# Altium schematic symbol library sch jasiel.SchLib: 32 symbols (part 1 of 2)
Pins are listed as number, name and electrical type; pins without a type are passive.

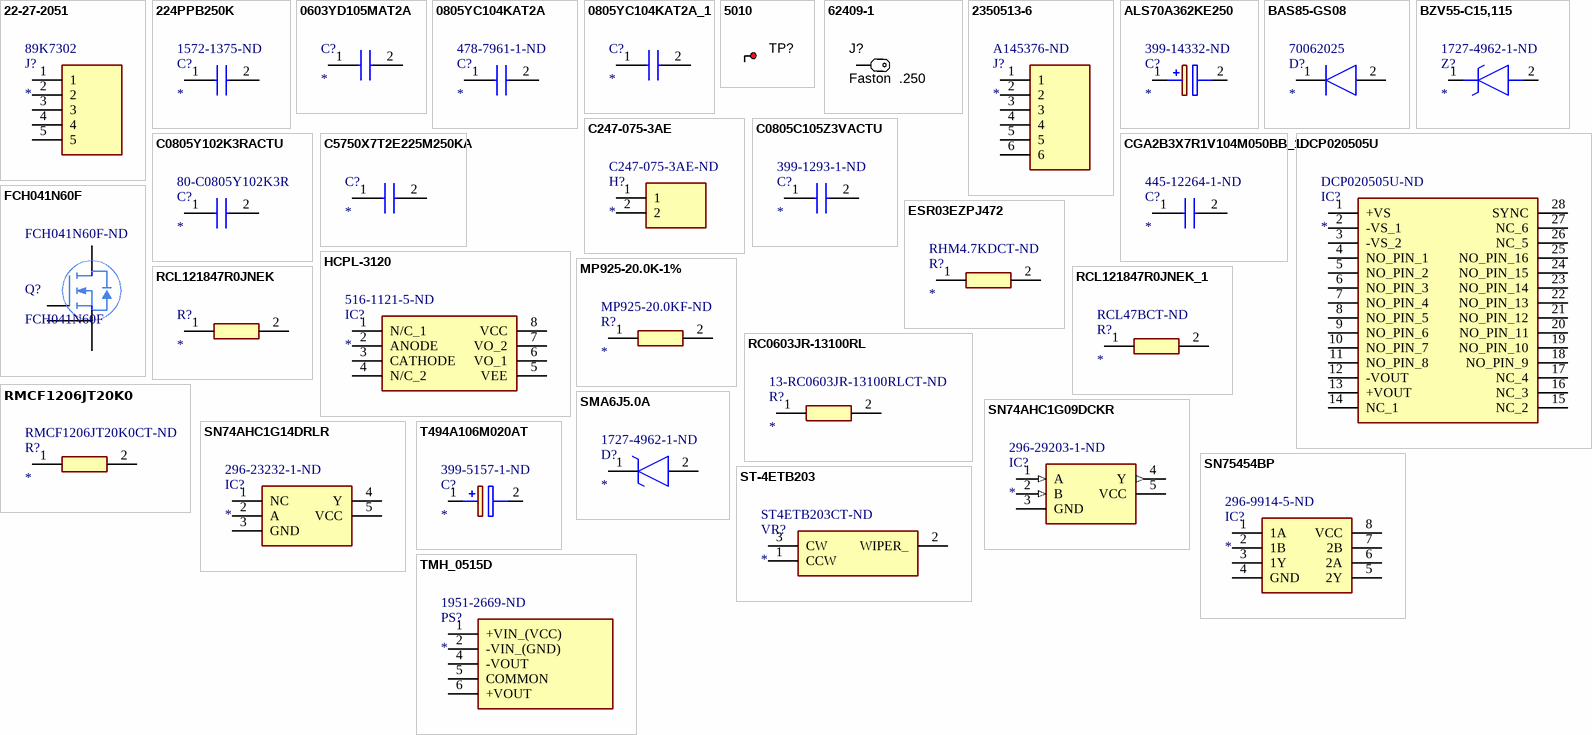
[diagram p0: symbols 22-27-2051 to TMH_0515D]

## 22-27-2051
designator J?  Supplier Part Number 1: 89K7302
Header Connector,PCB Mount,RECEPT,5 Contacts,PIN,0.1 Pitch,PC TAIL Terminal,POLARIZED LCK; Manufacturer_Name: Molex; Number of Contacts: 5; Contact Resistance: 10mR; Gender: Male; Pitch: 2.54mm; Contact Post Length: 0.14inch; Height: 12.05mm; Manufacturer_Part_Number: 22-27-2051; Supplier 1: Newark; Manufacturer: Molex; Manufacturer Part Number: 22-27-2051; RoHS: Yes; Category: Headers and Wire Housings; Stock 1: 21828; Pricing 1: 1=0.57800, 10=0.47700, 25=0.45700, 50=0.43700, 100=0.41700, 250=0.39000, 500=0.36100, 1000=0.30000 (USD); Mount: Through Hole; Contact Material: Brass; Contact Plating: Tin,Copper; Color: Natural; Housing Color: White; Housing Material: Nylon; Contact Shape: Square; Contact Finish - Mating: TIN; Insulation Material: Nylon; Insulation Color: Natural; Min Operating Temperature: 0°C; Max Operating Temperature: 75°C; Termination: Solder; Number of Rows: 1; Orientation: Straight; Series: KK 6410; Fastening Type: Friction; Packaging: Bulk; Number of Positions: 5; Connector Type: Header; Contact Type: Male Pin; Length: 12.7mm; Contact Mating Length: 0.295inch; Depth: 5.8mm; Insulation Height: 0.461inch; RoHS Compliant: Yes; Flammability Rating: UL94 V-0; ComponentLink1URL: https://datasheet.ciiva.com/716/022272051-sd-716503.pdf?src-supplier=Digi-Key; ComponentLink1Description: https://datasheet.ciiva.com/716/022272051-sd-716503.pdf?src-supplier=Digi-Key; ComponentLink2URL: https://datasheet.ciiva.com/3934/57790022272051-pcb-headers-3934985.pdf?src-supplier=Arrow+Electronics; ComponentLink2Description: https://datasheet.ciiva.com/3934/57790022272051-pcb-headers-3934985.pdf?src-supplier=Arrow+Electronics; ComponentLink3URL: https://datasheet.ciiva.com/30082/31850022272051-pcb-headers-30082446.pdf?src-supplier=Onlinecomponents.com; ComponentLink3Description: https://datasheet.ciiva.com/30082/31850022272051-pcb-headers-30082446.pdf?src-supplier=Onlinecomponents.com; ComponentLink4URL: https://datasheet.ciiva.com/11746/0900766b8046269a-11746902.pdf?src-supplier=RSComponents; ComponentLink4Description: https://datasheet.ciiva.com/11746/0900766b8046269a-11746902.pdf?src-supplier=RSComponents; ComponentLink5URL: https://datasheet.ciiva.com/15217/getdatasheetpartid-240225-15217686.pdf?src-supplier=Verical; ComponentLink5Description: https://datasheet.ciiva.com/15217/getdatasheetpartid-240225-15217686.pdf?src-supplier=Verical; ComponentLink6URL: https://datasheet.ciiva.com/20207/22-0838e-20207117.pdf?src-supplier=Rapid+Electronics; ComponentLink6Description: https://datasheet.ciiva.com/20207/22-0838e-20207117.pdf?src-supplier=Rapid+Electronics
footprint HDRV5W64P0X254_1X5_1270X580X1205P
pins: 1, 2, 3, 4, 5

## 224PPB250K
designator C?  Supplier Part Number 1: 1572-1375-ND
CAP FILM 0.22UF 10% 250VDC RAD; Manufacturer_Name: ILLINOIS CAPACITOR; Manufacturer_Part_Number: 224PPB250K; Manufacturer: CDE Illinois Capacitor; Dielectric Material: PP; Capacitance: 220nF; Voltage Rating (DC): 250V; Voltage Rating (AC): 160V; Datasheet Link: https://componentsearchengine.com/Datasheets/1/224PPB250K.pdf; Height: 15mm; Mouser Part Number: 598-224PPB250K; Mouser Price/Stock: https://www.mouser.com/Search/Refine.aspx?Keyword=598-224PPB250K; Supplier 1: Digi-Key; Manufacturer Part Number: 224PPB250K; RoHS: Yes; Category: Film Capacitors; Stock 1: 173; Pricing 1: 1=1.84000, 10=1.44900, 50=1.25580, 100=1.08680, 500=0.82110, 1000=0.72450, 2500=0.67620, 5000=0.65205 (USD); Mount: Through Hole,PCB; Case/Package: Radial; Min Operating Temperature: -55°C; Max Operating Temperature: 105°C; Tolerance: 10%; Voltage Rating: 250V; Packaging: Bulk; Termination: PC Pins; Series: PPB; Length: 1.043inch; Width: 0.236inch; Height - Seated (Max): 0.591inch; Lead Pitch: 0.886inch; Lead Free: Lead Free; ComponentLink1URL: https://datasheet.ciiva.com/23627/1658054-23627330.pdf?src-supplier=Newark; ComponentLink1Description: https://datasheet.ciiva.com/23627/1658054-23627330.pdf?src-supplier=Newark; ComponentLink2URL: https://datasheet.ciiva.com/16310/ppb-16310486.pdf?src-supplier=Future+Electronics; ComponentLink2Description: https://datasheet.ciiva.com/16310/ppb-16310486.pdf?src-supplier=Future+Electronics
footprint 224PPB250K
pins: 1, 2

## 0603YD105MAT2A
designator C?
Capacitor; Manufacturer_Name: AVX; Manufacturer_Part_Number: 0603YD105MAT2A; Datasheet Link: https://componentsearchengine.com/Datasheets/1/06031A100FAT2A.pdf; Height: 0.9mm
footprint CAPC1608X90N
pins: 1, 2

## 0805YC104KAT2A
designator C?  Supplier Part Number 1: 478-7961-1-ND
Multilayer Ceramic Capacitors MLCC - SMD/SMT 16V .1uF X7R 0805 10%; Manufacturer_Name: AVX; Manufacturer_Part_Number: 0805YC104KAT2A; Manufacturer: Kyocera AVX; Capacitance: 100nF; Dissipation Factor: 12.5%; Insulation Resistance: 100GR; Datasheet Link: https://spicat.avx.com/product/mlcc/chartview/0805YC104KAT2A/DataSheet/X7R; Height: 0.94mm; Mouser Part Number: 581-0805YC104K; Mouser Price/Stock: https://www.mouser.co.uk/ProductDetail/AVX/0805YC104KAT2A?qs=0j3vzYx9OgS3bRufCc82qg%3D%3D; Arrow Part Number: 0805YC104KAT2A; Arrow Price/Stock: https://www.arrow.com/en/products/0805yc104kat2a/avx; Supplier 1: Digi-Key; Manufacturer Part Number: 0805YC104KAT2A; RoHS: Yes; Category: Ceramic Capacitors; Stock 1: 61419; Pricing 1: 1=0.30000, 10=0.20700, 50=0.12420, 100=0.10490, 500=0.07176, 1000=0.06348 (USD); Mount: Surface Mount; Case/Package: 0805; Number of Pins: 2; Case Code (Metric): 2012; Case Code (Imperial): 0805; Min Operating Temperature: -55°C; Max Operating Temperature: 125°C; Tolerance: 10%; Dielectric: X7R; Packaging: Tape and Reel; Voltage Rating: 16V; Package Quantity: 1; Termination: SMD/SMT; Voltage Rating (DC): 16V; Series: -; Construction: Flat; Length: 2.01mm; Width: 0.049inch; Depth: 1.25mm; Thickness: 0.037inch; Radiation Hardening: No; REACH SVHC: No SVHC; Lead Free: Lead Free; RoHS Compliant: Yes; ComponentLink1URL: https://datasheet.ciiva.com/206/cx7r-206011.pdf?src-supplier=Digi-Key; ComponentLink1Description: https://datasheet.ciiva.com/206/cx7r-206011.pdf?src-supplier=Digi-Key; ComponentLink2URL: https://datasheet.ciiva.com/5418/cx7r-5418479.pdf?src-supplier=Mouser; ComponentLink2Description: https://datasheet.ciiva.com/5418/cx7r-5418479.pdf?src-supplier=Mouser; ComponentLink3URL: https://datasheet.ciiva.com/2988/cx7r-2988050.pdf?src-supplier=Avnet; ComponentLink3Description: https://datasheet.ciiva.com/2988/cx7r-2988050.pdf?src-supplier=Avnet; ComponentLink4URL: https://datasheet.ciiva.com/14906/cx7r-14906278.pdf?src-supplier=Digi-Key; ComponentLink4Description: https://datasheet.ciiva.com/14906/cx7r-14906278.pdf?src-supplier=Digi-Key; ComponentLink5URL: https://datasheet.ciiva.com/15212/getdatasheetpartid-150472-15212621.pdf?src-supplier=Verical; ComponentLink5Description: https://datasheet.ciiva.com/15212/getdatasheetpartid-150472-15212621.pdf?src-supplier=Verical; ComponentLink6URL: https://datasheet.ciiva.com/28613/1679506-28613143.pdf?src-supplier=Element14; ComponentLink6Description: https://datasheet.ciiva.com/28613/1679506-28613143.pdf?src-supplier=Element14; ComponentLink7URL: https://datasheet.ciiva.com/16623/cx7r-16623414.pdf?src-supplier=Avnet+Europe; ComponentLink7Description: https://datasheet.ciiva.com/16623/cx7r-16623414.pdf?src-supplier=Avnet+Europe
footprint CAPC2012X94N
pins: 1, 2

## 0805YC104KAT2A_1
designator C?
Capacitor; Manufacturer_Name: AVX; Manufacturer_Part_Number: 0805YC104KAT2A; Datasheet Link: https://spicat.avx.com/product/mlcc/chartview/0805YC104KAT2A/DataSheet/X7R; Height: 0.94mm; Mouser Part Number: 581-0805YC104K; Mouser Price/Stock: https://www.mouser.co.uk/ProductDetail/AVX/0805YC104KAT2A?qs=0j3vzYx9OgS3bRufCc82qg%3D%3D; Arrow Part Number: 0805YC104KAT2A; Arrow Price/Stock: https://www.arrow.com/en/products/0805yc104kat2a/avx
footprint CAPC2012X94N
pins: 1, 2

## 5010
designator TP?  (value not drawn)
Test Point, Multipurpose, Red, TH; Manufacturer: Keystone; CompType: Test Point Loop; ContactFinish: Silver; SymbolVersion: 2008-04-04; PartNumber: 5010; PackageReference: Red Multipurpose Testpoint; RoHS: Y; MountType: TH; ComponentLink1Description: Datasheet URL; ComponentLink1URL: http://www.keyelco.com/userAssets/file/M60-2p60.pdf; Color: Red; Publisher: Texas Instruments; LatestRevisionDate: 2016-02-11; Supplier 1: Digi-Key; Supplier Part Number 1: 36-5010-ND; Supplier 2: Mouser; Supplier Part Number 2: 534-5010
footprint Keystone5010
pins: 1

## 62409-1
designator J?, comment Faston  .250
Quick Disconnect Terminal M 15.8mm 7.5mm Tin Over Copper Automotive Bag; Manufacturer: AMP - TE CONNECTIVITY; Manufacturer Part Number: 62409-1; RoHS: No; Stock 1: 8729; Pricing 1: 1=0,19000, 10=0,17800, 25=0,15200, 50=0,13320, 100=0,12360, 250=0,10936, 750=0,09035, 1500=0,08083, 8000=0,06895 (USD); ComponentLink1URL: http://www.farnell.com/datasheets/1650963.pdf?src-supplier=Farnell; ComponentLink1Description: http://www.farnell.com/datasheets/1650963.pdf?src-supplier=Farnell; ComponentLink2URL: http://www.farnell.com/datasheets/1650963.pdf?src-supplier=Element14; ComponentLink2Description: http://www.farnell.com/datasheets/1650963.pdf?src-supplier=Element14; ComponentLink3URL: http://www.farnell.com/datasheets/1650963.pdf?src-supplier=Newark; ComponentLink3Description: http://www.farnell.com/datasheets/1650963.pdf?src-supplier=Newark; ComponentLink4URL: https://www.te.com/commerce/DocumentDelivery/DDEController?Action=srchrtrv&DocNm=62409&DocType=Customer+Drawing&DocLang=English&src-supplier=Digi-Key; ComponentLink4Description: https://www.te.com/commerce/DocumentDelivery/DDEController?Action=srchrtrv&DocNm=62409&DocType=Customer+Drawing&DocLang=English&src-supplier=Digi-Key; Supplier 1: Newark; Supplier Part Number 1: 26AC8417
footprint TE_62409-1
pins: 1 P1

## 2350513-6
designator J?  Supplier Part Number 1: A145376-ND
Connector; Manufacturer_Name: TE Connectivity; Manufacturer_Part_Number: 2350513-6; Datasheet Link: https://componentsearchengine.com/Datasheets/1/2350513-6.pdf; Height: 8.6mm; Supplier 1: Digi-Key; Manufacturer: TE Connectivity; Manufacturer Part Number: 2350513-6; RoHS: Yes; Stock 1: 2983; Pricing 1: 1=1.16000, 10=0.81200, 25=0.75720, 50=0.68740, 100=0.68430, 250=0.57788, 500=0.54748, 1000=0.48664, 5000=0.39540 (USD)
footprint 23505136
pins: 1, 2, 3, 4, 5, 6

## ALS70A362KE250
designator C?  Supplier Part Number 1: 399-14332-ND
Capacitor Polarised; Manufacturer_Name: Kemet; Manufacturer_Part_Number: ALS70A362KE250; Datasheet Link: https://www.mouser.co.cr/ProductDetail/KEMET/ALS70A362KE250?qs=%2Fha2pyFaduj3AQ8COxkE8lI%252BUillJnwqd3tsmY5wFt8h31rq7v%2FTZw%3D%3D; Height: 82mm; Supplier 1: Digi-Key; Manufacturer: KEMET; Manufacturer Part Number: ALS70A362KE250; RoHS: Yes; Stock 1: 77; Pricing 1: 1=23.64000, 10=22.39500, 50=19.28460, 100=18.04040, 500=16.17416, 1000=15.75944 (USD)
footprint CAPPRD2220W900D5400H8200
pins: 1 + (power), 2 - (power)

## BAS85-GS08
designator D?  Supplier Part Number 1: 70062025
VISHAY - BAS85-GS08 - Small Signal Schottky Diode, Single, 30 V, 200 mA, 800 mV, 600 mA, 125 °C; Manufacturer: Vishay Semiconductors; Recovery Time: 5ns; Max Surge Current: 600mA; Forward Voltage: 800mV; Forward Current: 200mA; Max Reverse Current: 2uA; Max Repetitive Reverse Voltage (Vrrm): 30V; Power Dissipation: 200mW; Current Rating: 200A; Datasheet Link: https://www.vishay.com/docs/85510/bas85.pdf; Height: 1.6mm; Manufacturer_Name: Vishay; Manufacturer_Part_Number: BAS85-GS08; Supplier 1: Allied Electronics; Manufacturer Part Number: BAS85-GS08; RoHS: Yes; Category: Rectifier Diodes; Stock 1: 12500; Pricing 1: 1=0.06300, 12500=0.06000, 625000=0.05900 (USD); Mount: Surface Mount; Number of Pins: 2; Contact Plating: Tin,Silver; Min Operating Temperature: -55°C; Max Operating Temperature: 125°C; Package Quantity: 1; Packaging: Tape and Reel; Average Rectified Current: 200mA; Reverse Recovery Time: 5ns; Max Reverse Leakage Current: 2uA; Peak Non-Repetitive Surge Current: 600mA; Max Forward Surge Current (Ifsm): 600mA; Element Configuration: Single; Current: 200mA; Voltage: 30V; Max Reverse Voltage (DC): 30V; Diameter: 1.6mm; Length: 0.145inch; Width: 1.6mm; Radiation Hardening: No; REACH SVHC: Unknown; Lead Free: Lead Free; RoHS Compliant: Yes; ComponentLink1URL: https://datasheet.ciiva.com/1202/1354484-1202985.pdf?src-supplier=Farnell; ComponentLink1Description: https://datasheet.ciiva.com/1202/1354484-1202985.pdf?src-supplier=Farnell; ComponentLink2URL: https://datasheet.ciiva.com/4715/bas85-88986-4715157.pdf?src-supplier=Mouser; ComponentLink2Description: https://datasheet.ciiva.com/4715/bas85-88986-4715157.pdf?src-supplier=Mouser; ComponentLink3URL: https://datasheet.ciiva.com/17069/0900766b80de2cb8-17069417.pdf?src-supplier=Allied+Electronics; ComponentLink3Description: https://datasheet.ciiva.com/17069/0900766b80de2cb8-17069417.pdf?src-supplier=Allied+Electronics; ComponentLink4URL: https://datasheet.ciiva.com/1240/1749352-1240576.pdf?src-supplier=Newark; ComponentLink4Description: https://datasheet.ciiva.com/1240/1749352-1240576.pdf?src-supplier=Newark; ComponentLink5URL: https://datasheet.ciiva.com/13950/bas85-13950054.pdf?src-supplier=Digi-Key; ComponentLink5Description: https://datasheet.ciiva.com/13950/bas85-13950054.pdf?src-supplier=Digi-Key; ComponentLink6URL: https://datasheet.ciiva.com/13950/bas85-13950058.pdf?src-supplier=Digi-Key; ComponentLink6Description: https://datasheet.ciiva.com/13950/bas85-13950058.pdf?src-supplier=Digi-Key; ComponentLink7URL: https://datasheet.ciiva.com/8281/bas85-8281903.pdf?src-supplier=Avnet; ComponentLink7Description: https://datasheet.ciiva.com/8281/bas85-8281903.pdf?src-supplier=Avnet; ComponentLink8URL: https://datasheet.ciiva.com/16298/bas85-16298175.pdf?src-supplier=Future+Electronics; ComponentLink8Description: https://datasheet.ciiva.com/16298/bas85-16298175.pdf?src-supplier=Future+Electronics; ComponentLink9URL: https://datasheet.ciiva.com/16941/70061833-16941564.pdf?src-supplier=Allied+Electronics; ComponentLink9Description: https://datasheet.ciiva.com/16941/70061833-16941564.pdf?src-supplier=Allied+Electronics; ComponentLink10URL: https://datasheet.ciiva.com/25936/bas85-25936302.pdf?src-supplier=Avnet+Europe; ComponentLink10Description: https://datasheet.ciiva.com/25936/bas85-25936302.pdf?src-supplier=Avnet+Europe
footprint BAQ33GS08
pins: 1 K, 2 A

## BZV55-C15,115
designator Z?  Supplier Part Number 1: 1727-4962-1-ND
NEXPERIA - BZV55-C15,115 - ZENER-DIODE, 15V, 0.5W, SOD-80C-2; Datasheet Link: https://componentsearchengine.com//BZV55-C15,115.pdf; Mouser2 Part Number: 771-BZV55-C15T/R; Mouser2 Price/Stock: https://www.mouser.com/Search/Refine.aspx?Keyword=771-BZV55-C15T%2FR; Manufacturer_Name: Nexperia; Manufacturer_Part_Number: BZV55-C15,115; Supplier 1: Digi-Key; Manufacturer: Nexperia; Manufacturer Part Number: BZV55-C15,115; RoHS: Yes; Category: Zener Diodes; Stock 1: 198; Pricing 1: 1=0.19000, 10=0.17500, 100=0.09520, 500=0.05856, 1000=0.03993 (USD); RoHS Compliant: Yes; ComponentLink1URL: http://www.farnell.com/datasheets/1498690.pdf?src-supplier=Farnell; ComponentLink1Description: http://www.farnell.com/datasheets/1498690.pdf?src-supplier=Farnell; ComponentLink2URL: https://assets.nexperia.com/documents/data-sheet/BZV55_SER.pdf?src-supplier=Digi-Key; ComponentLink2Description: https://assets.nexperia.com/documents/data-sheet/BZV55_SER.pdf?src-supplier=Digi-Key
footprint BZV55C11115
pins: 1 K, 2 A

## C247-075-3AE
designator H?  Supplier Part Number 1: C247-075-3AE-ND
Heatsink,  TO-247,  75 x 20.47 x 38mm,  Spring Clip Mount; Manufacturer_Name: Ohmite; Manufacturer_Part_Number: C247-075-3AE; Shape: Fins,Rectangular; Finish: Anodized; Thermal Resistance @ Forced Air Flow (100 LFM): 2°C/W; Datasheet Link: https://www.ohmite.com/assets/docs/sink_c.pdf; Height: 38mm; Supplier 1: Digi-Key; Manufacturer: Ohmite; Manufacturer Part Number: C247-075-3AE; RoHS: Yes; Category: Heat Sinks; Stock 1: 277; Pricing 1: 1=10.28000, 10=9.99900, 25=9.44360, 50=8.88800, 100=8.33250, 250=7.77700, 500=7.22150, 1000=7.08262 (USD); Mount: PC Pin,Board,Clip; Case/Package: TO-247; Weight: 1.6oz; Package Cooled: TO-247; Material: Aluminium; Color: Black; Packaging: Bulk; Package Quantity: 5; Type: Passive; Termination: Radial; Natural Thermal Resistance: 2°C/W; Series: C; Length: 75mm; Width: 1.5inch; Height Off Base: 0.71inch; REACH SVHC: Unknown; RoHS Compliant: Yes; ComponentLink1URL: https://datasheet.ciiva.com/1347/1491991-1347537.pdf?src-supplier=Element14; ComponentLink1Description: https://datasheet.ciiva.com/1347/1491991-1347537.pdf?src-supplier=Element14; ComponentLink2URL: https://datasheet.ciiva.com/30237/c-sink-30237933.pdf?src-supplier=Onlinecomponents.com; ComponentLink2Description: https://datasheet.ciiva.com/30237/c-sink-30237933.pdf?src-supplier=Onlinecomponents.com; ComponentLink3URL: https://datasheet.ciiva.com/16151/c-sink-16151064.pdf?src-supplier=Onlinecomponents.com; ComponentLink3Description: https://datasheet.ciiva.com/16151/c-sink-16151064.pdf?src-supplier=Onlinecomponents.com; ComponentLink4URL: https://datasheet.ciiva.com/14543/70024778-14543773.pdf?src-supplier=Allied+Electronics; ComponentLink4Description: https://datasheet.ciiva.com/14543/70024778-14543773.pdf?src-supplier=Allied+Electronics
footprint C2470753AE
pins: 1, 2

## C0805C105Z3VACTU
designator C?  Supplier Part Number 1: 399-1293-1-ND
KEMET - C0805C105Z3VACTU - Condensatore Ceramico Multistrato SMD, 1 µF, 25 V, 0805 [2012 Metrico], +80%, -20%, Y5V; Capacitance: 1uF; Tolerance: 80%; Voltage Rating: 25V; Dissipation Factor: 7%; Height: 1.4mm; Manufacturer_Name: Kemet; Manufacturer_Part_Number: C0805C105Z3VACTU; Supplier 1: Digi-Key; Manufacturer: KEMET; Manufacturer Part Number: C0805C105Z3VACTU; RoHS: Yes; Category: Ceramic Capacitors; Stock 1: 52228; Pricing 1: 1=0.19000, 10=0.13300, 50=0.07540, 100=0.06250, 500=0.04384, 1000=0.03630 (USD); Mount: Surface Mount,PCB; Case/Package: 0805; Case Code (Metric): 2012; Case Code (Imperial): 0805; Dielectric Material: Ceramic; Contact Plating: Tin,Matte; Min Operating Temperature: -30°C; Max Operating Temperature: 85°C; Packaging: Tape and Reel; Package Quantity: 1; Voltage Rating (DC): 25V; Dielectric: Y5V; Termination: SMD/SMT; Voltage: 25V; Series: C; Construction: Flat; Length: 2mm; Width: 0.049inch; Thickness: 0.055inch; Lead Pitch: 0.75mm; Depth: 1.25mm; Radiation Hardening: No; REACH SVHC: No SVHC; Lead Free: Lead Free; RoHS Compliant: Yes; ComponentLink1URL: https://datasheet.ciiva.com/26923/getdatasheetpartid-760604-26923968.pdf?src-supplier=Verical; ComponentLink1Description: https://datasheet.ciiva.com/26923/getdatasheetpartid-760604-26923968.pdf?src-supplier=Verical; ComponentLink2URL: https://datasheet.ciiva.com/7842/1470417-7842551.pdf?src-supplier=Element14; ComponentLink2Description: https://datasheet.ciiva.com/7842/1470417-7842551.pdf?src-supplier=Element14; ComponentLink3URL: https://datasheet.ciiva.com/7410/1828802-7410679.pdf?src-supplier=Newark; ComponentLink3Description: https://datasheet.ciiva.com/7410/1828802-7410679.pdf?src-supplier=Newark; ComponentLink4URL: https://datasheet.ciiva.com/26847/getdatasheetpartid-306316-26847813.pdf?src-supplier=Verical; ComponentLink4Description: https://datasheet.ciiva.com/26847/getdatasheetpartid-306316-26847813.pdf?src-supplier=Verical; ComponentLink5URL: https://datasheet.ciiva.com/14597/70095383-14597676.pdf?src-supplier=Allied+Electronics; ComponentLink5Description: https://datasheet.ciiva.com/14597/70095383-14597676.pdf?src-supplier=Allied+Electronics
footprint CAPC2012X140N
pins: 1, 2

## C0805Y102K3RACTU
designator C?  Supplier Part Number 1: 80-C0805Y102K3R
Multilayer Ceramic Capacitors MLCC - SMD/SMT 25volts 1000pF 10% X7R; Manufacturer_Name: Kemet; Manufacturer_Part_Number: C0805Y102K3RACTU; Capacitance: 1nF; Voltage Rating (DC): 25V; Datasheet Link: https://www.kemet.com/specsheet/C0805Y102K3RACTU; Height: 0.98mm; Mouser Part Number: 80-C0805Y102K3R; Mouser Price/Stock: https://www.mouser.com/Search/Refine.aspx?Keyword=80-C0805Y102K3R; Supplier 1: Mouser; Manufacturer: KEMET; Manufacturer Part Number: C0805Y102K3RACTU; RoHS: Yes; Category: Capacitors; Stock 1: 8015; Pricing 1: 1=0.43000, 10=0.30100, 50=0.30100, 100=0.18100, 1000=0.11400, 10000=0.10200 (USD); Case/Package: 0805; Case Code (Imperial): 0805; Case Code (Metric): 2012; Weight: 0.000194oz; Dielectric Material: Ceramic; Min Operating Temperature: -55°C; Max Operating Temperature: 125°C; Packaging: Tape and Reel; Tolerance: 10%; Dielectric: X7R; Termination: SMD/SMT; Series: C0805Y; RoHS Compliant: Yes; ComponentLink1URL: http://www.mouser.com/ds/2/212/KEM_C1015_X7R_FF-CAP_SMD-1101148.pdf?src-supplier=Mouser; ComponentLink1Description: http://www.mouser.com/ds/2/212/KEM_C1015_X7R_FF-CAP_SMD-1101148.pdf?src-supplier=Mouser
footprint CAPC2012X98N
pins: 1, 2

## C5750X7T2E225M250KA
designator C?
Capacitor; Manufacturer_Name: TDK; Manufacturer_Part_Number: C5750X7T2E225M250KA; Datasheet Link: https://product.tdk.com/en/search/capacitor/ceramic/mlcc/info?part_no=C5750X7T2E225M250KA; Height: 3.1mm
footprint CAPC5750X310N
pins: 1, 2

## CGA2B3X7R1V104M050BB_1
designator C?  Supplier Part Number 1: 445-12264-1-ND
Cap Ceramic 0.1uF 35V X7R 20% Pad SMD 0402 125C Automotive T/R; Manufacturer_Name: TDK; Manufacturer_Part_Number: CGA2B3X7R1V104M050BB; Capacitance: 100nF; Height: 0.55mm; Supplier 1: Digi-Key; Manufacturer: TDK; Manufacturer Part Number: CGA2B3X7R1V104M050BB; RoHS: Yes; Category: Ceramic Capacitors; Stock 1: 93877; Pricing 1: 1=0.14000, 10=0.10200, 50=0.05780, 100=0.04780, 500=0.03356, 1000=0.02778, 2500=0.02585, 5000=0.02365 (USD); Mount: Surface Mount; Case/Package: 0402; Case Code (Metric): 1005; Case Code (Imperial): 0402; Weight: 2.3E-05oz; Min Operating Temperature: -55°C; Max Operating Temperature: 125°C; Tolerance: 20%; Voltage Rating: 35V; Package Quantity: 10000; Packaging: Tape and Reel; Dielectric: X7R; Voltage Rating (DC): 35V; Series: CGA; Length: 0.039inch; Width: 0.02inch; Thickness: 0.022inch; Ratings: AEC-Q200; RoHS Compliant: Yes; ComponentLink1URL: http://www.mouser.com/ds/2/400/lcc_automotive_general_en-843974.pdf?src-supplier=Mouser; ComponentLink1Description: http://www.mouser.com/ds/2/400/lcc_automotive_general_en-843974.pdf?src-supplier=Mouser; ComponentLink2URL: https://product.tdk.com/info/en/catalog/datasheets/mlcc_automotive_general_en.pdf?src-supplier=Digi-Key; ComponentLink2Description: https://product.tdk.com/info/en/catalog/datasheets/mlcc_automotive_general_en.pdf?src-supplier=Digi-Key; ComponentLink3URL: https://product.tdk.com/info/en/documents/chara_sheet/CGA2B3X7R1V104M050BB.pdf?src-supplier=Digi-Key; ComponentLink3Description: https://product.tdk.com/info/en/documents/chara_sheet/CGA2B3X7R1V104M050BB.pdf?src-supplier=Digi-Key; ComponentLink4URL: http://product.tdk.com/en/catalog/datasheets/mlcc_automotive_general_en.pdf?src-supplier=Avnet; ComponentLink4Description: http://product.tdk.com/en/catalog/datasheets/mlcc_automotive_general_en.pdf?src-supplier=Avnet
footprint CAPC1005X55N
pins: 1, 2

## DCP020505U
designator IC?  Supplier Part Number 1: DCP020505U-ND
TEXAS INSTRUMENTS         DCP020505U             ISOLATED DC/DC CONVERTER, SOP-28; Number of Outputs: 1; Output Power: 2W; Efficiency: 80%; Output Current: 400mA; Output Voltage: 5V; Max Input Voltage: 5.5V; Min Input Voltage: 4.5V; Switching Frequency: 400kHz; Isolation Voltage: 1kV; Max Power Dissipation: 90mW; Max Output Voltage: 5.25V; Min Output Voltage: 4.75V; Quiescent Current: 18mA; Output Type: Fixed; Datasheet Link: http://www.ti.com/lit/gpn/dcp020505; Height: 2.65mm; Mouser2 Part Number: 595-DCP020505U; Mouser2 Price/Stock: https://www.mouser.com/Search/Refine.aspx?Keyword=595-DCP020505U; Manufacturer_Name: Texas Instruments; Manufacturer_Part_Number: DCP020505U; Supplier 1: Digi-Key; Manufacturer: Texas Instruments; Manufacturer Part Number: DCP020505U; RoHS: Yes; Category: Board Mount Modules; Stock 1: 4970; Pricing 1: 1=11.23000 (USD); Case/Package: SOP; Number of Pins: 12; Min Operating Temperature: -40°C; Max Operating Temperature: 85°C; Package Quantity: 28; Packaging: Rail/Tube; Max Output Current: 400mA; Voltage - Output 1: 5V; Current - Output 1: 400mA; Max Output Power: 2W; Features: OTP; Series: DCP02; Nominal Output Voltage: 5V; Length: 0.71inch; Width: 0.3inch; Radiation Hardening: No; Lead Free: Lead Free; RoHS Compliant: Yes; REACH SVHC: No SVHC; ComponentLink1URL: https://datasheet.ciiva.com/19456/900308-19456024.pdf?src-supplier=Jameco; ComponentLink1Description: https://datasheet.ciiva.com/19456/900308-19456024.pdf?src-supplier=Jameco; ComponentLink2URL: https://datasheet.ciiva.com/15113/getdatasheetpartid-254307-15113476.pdf?src-supplier=Verical; ComponentLink2Description: https://datasheet.ciiva.com/15113/getdatasheetpartid-254307-15113476.pdf?src-supplier=Verical; ComponentLink3URL: https://datasheet.ciiva.com/26901/dcp020505u-26901416.pdf?src-supplier=IIIC; ComponentLink3Description: https://datasheet.ciiva.com/26901/dcp020505u-26901416.pdf?src-supplier=IIIC; ComponentLink4URL: https://datasheet.ciiva.com/2035/dcp020503-2035804.pdf?src-supplier=Digi-Key; ComponentLink4Description: https://datasheet.ciiva.com/2035/dcp020503-2035804.pdf?src-supplier=Digi-Key; ComponentLink5URL: https://datasheet.ciiva.com/1162/1833994-1162398.pdf?src-supplier=Element14; ComponentLink5Description: https://datasheet.ciiva.com/1162/1833994-1162398.pdf?src-supplier=Element14; ComponentLink6URL: https://datasheet.ciiva.com/48695/001206978-da-01-en-ic-reg-isolated-5v-dcp020505u-sop-12-tid-48695307.pdf?src-supplier=Conrad; ComponentLink6Description: https://datasheet.ciiva.com/48695/001206978-da-01-en-ic-reg-isolated-5v-dcp020505u-sop-12-tid-48695307.pdf?src-supplier=Conrad
footprint SOIC127P1033X265-28N
pins: 1 +VS, 2 -VS_1, 3 -VS_2, 4 NO_PIN_1, 5 NO_PIN_2, 6 NO_PIN_3, 7 NO_PIN_4, 8 NO_PIN_5, 9 NO_PIN_6, 10 NO_PIN_7, 11 NO_PIN_8, 12 -VOUT, 13 +VOUT, 14 NC_1, 15 NC_2, 16 NC_3, 17 NC_4, 18 NO_PIN_9, 19 NO_PIN_10, 20 NO_PIN_11, 21 NO_PIN_12, 22 NO_PIN_13, 23 NO_PIN_14, 24 NO_PIN_15, 25 NO_PIN_16, 26 NC_5, 27 NC_6, 28 SYNC

## ESR03EZPJ472
designator R?  Supplier Part Number 1: RHM4.7KDCT-ND
ESR03EZPJ472; Manufacturer_Name: ROHM Semiconductor; Manufacturer: Rohm; Resistance: 4.7kR; Tolerance: 5%; Temperature Coefficient: 200ppm/°C; Max Power Dissipation: 250mW; Datasheet Link: http://www.rohm.com/web/global/datasheet/ESR01MZPF/esr-e; Height: 0.55mm; Manufacturer_Part_Number: ESR03EZPJ472; Supplier 1: Digi-Key; Manufacturer Part Number: ESR03EZPJ472; RoHS: Yes; Category: Chip SMD Resistors; Stock 1: 85174; Pricing 1: 1=0.10000, 10=0.08200, 100=0.03160, 1000=0.01392, 2500=0.01202 (USD); Case/Package: 0603; Case Code (Imperial): 0603; Min Operating Temperature: -55°C; Max Operating Temperature: 155°C; Package Quantity: 5000; Packaging: Tape and Reel; Resistor Type: Thick Film; Number of Terminations: 2; Features: Automotive AEC-Q200; Series: ESR; Length: 0.063inch; Width: 0.031inch; RoHS Compliant: Yes; ComponentLink1URL: https://datasheet.ciiva.com/2468/esr-2468934.pdf?src-supplier=Digi-Key; ComponentLink1Description: https://datasheet.ciiva.com/2468/esr-2468934.pdf?src-supplier=Digi-Key
footprint RESC1608X55N - duplicate
pins: 1, 2

## FCH041N60F
designator Q?  Supplier Part Number 1: FCH041N60F-ND
MOSFET 600V N-Channel MOSFET, FRFET; Manufacturer: ON Semiconductor / Fairchild; Continuous Drain Current (ID): 76A; Rds On Max: 41mR; Input Capacitance: 14.365nF; Rise Time: 66ns; Max Power Dissipation: 595W; Fall Time: 53ns; Gate to Source Voltage (Vgs): 20V; Turn-Off Delay Time: 244ns; Turn-On Delay Time: 63ns; Element Configuration: Single; Drain to Source Resistance: 36mR; Number of Elements: 1; Manufacturer Part Number: FCH041N60F; RoHS: Yes; Category: MOSFETs; Stock 1: 1157; Pricing 1: 1=9.07000, 10=8.19600, 25=7.81480, 100=6.78560, 500=6.06480 (USD); Mount: Through Hole; Case/Package: TO-247-3; Number of Pins: 3; Weight: 6.39g; Contact Plating: Tin,Matte; Min Operating Temperature: -55°C; Max Operating Temperature: 150°C; Packaging: Rail/Tube; Drain to Source Voltage (Vdss): 600V; Package Quantity: 30; Drain to Source Breakdown Voltage: 600V; Power Dissipation: 595W; Polarity: N-CHANNEL; Series: SuperFETII®; Length: 15.87mm; Width: 4.82mm; Height: 20.82mm; Radiation Hardening: No; Lead Free: Lead Free; RoHS Compliant: Yes; ComponentLink1URL: https://datasheet.ciiva.com/15043/fch041n60f-15043778.pdf?src-supplier=Digi-Key; ComponentLink1Description: https://datasheet.ciiva.com/15043/fch041n60f-15043778.pdf?src-supplier=Digi-Key; ComponentLink2URL: https://datasheet.ciiva.com/13058/fch041n60f-226495-13058758.pdf?src-supplier=Mouser; ComponentLink2Description: https://datasheet.ciiva.com/13058/fch041n60f-226495-13058758.pdf?src-supplier=Mouser; ComponentLink3URL: https://datasheet.ciiva.com/28425/fch041n60f-28425574.pdf?src-supplier=Avnet+Europe; ComponentLink3Description: https://datasheet.ciiva.com/28425/fch041n60f-28425574.pdf?src-supplier=Avnet+Europe; Supplier 1: Digi-Key
footprint TO-247-4L_FCH041N60F
pins: 1 D, 2 Power Source, 3 S, 4 G

## HCPL-3120
designator IC?  Supplier Part Number 1: 516-1121-5-ND
Optocoupler Drive Push-Pull 1-CH 30V 1500V 8-Pin PDIP; Manufacturer_Name: Avago Technologies; Manufacturer: Broadcom Avago; Number of Channels: 1; Propagation Delay: 500ns; Rise Time: 100ns; Pulse Width Distortion (PWD): 300ns; Direction: Unidirectional; Max Power Dissipation: 295mW; Forward Current: 25mA; Forward Voltage: 1.5V; Reverse Breakdown Voltage: 5V; High Level Output Current: 2A; Fall Time: 0.1us; Isolation Voltage: 3.75kV; Max Output Current: 2.5A; Input Type: DC; Approvals: CSA,UR; Datasheet Link: https://docs.broadcom.com/docs/AV02-0161EN; Height: 4.7mm; Mouser2 Part Number: 630-HCPL-3120; Mouser2 Price/Stock: https://www.mouser.com/Search/Refine.aspx?Keyword=630-HCPL-3120; Manufacturer_Part_Number: HCPL-3120; Supplier 1: Digi-Key; Manufacturer Part Number: HCPL-3120; RoHS: No; Category: Optocouplers; Stock 1: 3108; Pricing 1: 1=4.42000, 10=3.12300, 100=2.55790, 500=2.15642, 1000=2.10450 (USD); Mount: Through Hole; Case/Package: PDIP; Number of Pins: 8; Min Operating Temperature: -40°C; Max Operating Temperature: 100°C; Packaging: Rail/Tube; Package Quantity: 50; Series: -; Low Level Output Current: 2A; Turn-On Delay Time: 500ns; Number of Elements: 1; Power Dissipation: 295mW; Output Type: PUSH-PULL; Radiation Hardening: No; RoHS Compliant: No; Lead Free: Contains Lead; ComponentLink1URL: https://datasheet.ciiva.com/19453/1550434-19453924.pdf?src-supplier=Jameco; ComponentLink1Description: https://datasheet.ciiva.com/19453/1550434-19453924.pdf?src-supplier=Jameco; ComponentLink2URL: https://datasheet.ciiva.com/15119/getdatasheetpartid-141584-15119757.pdf?src-supplier=Verical; ComponentLink2Description: https://datasheet.ciiva.com/15119/getdatasheetpartid-141584-15119757.pdf?src-supplier=Verical
footprint DIP762W65P254L965H470Q8N
pins: 1 N/C_1, 2 ANODE, 3 CATHODE, 4 N/C_2, 5 VEE, 6 VO_1, 7 VO_2, 8 VCC

## MP925-20.0K-1%
designator R?  Supplier Part Number 1: MP925-20.0KF-ND
RES 20K OHM 25W 1% TO220; Manufacturer_Name: Caddock; Manufacturer_Part_Number: MP925-20.0K-1%; Resistance: 20kR; Voltage Rating: 500V; Temperature Coefficient: 80ppm/°C; Lead Diameter: 0.64mm; Lead Length: 12.7mm; Datasheet Link: http://www.caddock.com/Online_catalog/Mrktg_Lit/MP9000_Series.pdf; Height: 3.44mm; Supplier 1: Digi-Key; Manufacturer: Caddock; Manufacturer Part Number: MP925-20.0K-1%; RoHS: Yes; Category: Through-Hole Resistors; Stock 1: 6167; Pricing 1: 1=5.50000, 10=4.97300, 100=3.70300, 1000=2.66616, 2500=2.62384 (USD); Case/Package: TO-220; Min Operating Temperature: -55°C; Max Operating Temperature: 150°C; Tolerance: 1%; Power Rating: 25W; Package Quantity: 50; Packaging: Rail/Tube; Voltage Rating (DC): 500V; Termination: Radial; Resistor Type: Thick Film; Number of Terminations: 2; Max Power Dissipation: 25W; Features: Moisture Resistant; Series: Kool-Pak®MP900; Resistance Tolerance: 1%; Length: 10.41mm; Width: 3.18mm; Lead Pitch: 5.08mm; Depth: 3.18mm; Thickness: 0.01inch; REACH SVHC: No SVHC; Lead Free: Lead Free; RoHS Compliant: Yes; ComponentLink1URL: https://datasheet.ciiva.com/11828/0900766b80020b2d-11828047.pdf?src-supplier=RSComponents; ComponentLink1Description: https://datasheet.ciiva.com/11828/0900766b80020b2d-11828047.pdf?src-supplier=RSComponents; ComponentLink2URL: https://datasheet.ciiva.com/2720/mp9000-series-2720196.pdf?src-supplier=Digi-Key; ComponentLink2Description: https://datasheet.ciiva.com/2720/mp9000-series-2720196.pdf?src-supplier=Digi-Key; ComponentLink3URL: https://datasheet.ciiva.com/16720/70089379-16720159.pdf?src-supplier=Allied+Electronics; ComponentLink3Description: https://datasheet.ciiva.com/16720/70089379-16720159.pdf?src-supplier=Allied+Electronics; ComponentLink4URL: https://datasheet.ciiva.com/7986/638160-7986021.pdf?src-supplier=Element14; ComponentLink4Description: https://datasheet.ciiva.com/7986/638160-7986021.pdf?src-supplier=Element14; ComponentLink5URL: https://datasheet.ciiva.com/23759/638160-23759646.pdf?src-supplier=Newark; ComponentLink5Description: https://datasheet.ciiva.com/23759/638160-23759646.pdf?src-supplier=Newark; ComponentLink6URL: https://datasheet.ciiva.com/48502/mp900-series-eng-tds-48502054.pdf?src-supplier=Distrelec; ComponentLink6Description: https://datasheet.ciiva.com/48502/mp900-series-eng-tds-48502054.pdf?src-supplier=Distrelec
footprint TO508P344X1041X2058-2P
pins: 1, 2

## RC0603JR-13100RL
designator R?  Supplier Part Number 1: 13-RC0603JR-13100RLCT-ND
YAGEO - RC0603JR-13100RL - RES, THICK FILM, 100R, 5%, 0.1W, 0603; Manufacturer_Name: YAGEO (PHYCOMP); Power Rating: 100mW; Voltage Rating: 50V; Temperature Coefficient: 100ppm/°C; Datasheet Link: http://www.yageo.com/documents/recent/PYu-RC0603_51_RoHS_L_v5.pdf; Height: 0.55mm; Manufacturer_Part_Number: RC0603JR-13100RL; Supplier 1: Digi-Key; Manufacturer: Yageo; Manufacturer Part Number: RC0603JR-13100RL; RoHS: Yes; Category: Chip SMD Resistors; Stock 1: 37865; Pricing 1: 1=0.10000, 10=0.02000, 100=0.00800, 1000=0.00360, 2500=0.00312, 5000=0.00258 (USD); Case/Package: 0603; Number of Pins: 2; Case Code (Imperial): 0603; Case Code (Metric): 1608; Min Operating Temperature: -55°C; Max Operating Temperature: 155°C; Resistance: 100R; Tolerance: 5%; Packaging: Tape and Reel; Resistor Type: Thick Film; Termination: SMD/SMT; Voltage Rating (DC): 50V; Series: RC; Construction: Rectangular; Resistance Tolerance: 5%; Length: 1.6mm; Width: 0.8mm; Depth: 0.8mm; REACH SVHC: No SVHC; Military Standard: Not; Lead Free: Lead Free; RoHS Compliant: Yes; ComponentLink1URL: https://datasheet.ciiva.com/12558/rc0603-272842-12558903.pdf?src-supplier=Mouser; ComponentLink1Description: https://datasheet.ciiva.com/12558/rc0603-272842-12558903.pdf?src-supplier=Mouser; ComponentLink2URL: https://datasheet.ciiva.com/7983/443971-7983750.pdf?src-supplier=Element14; ComponentLink2Description: https://datasheet.ciiva.com/7983/443971-7983750.pdf?src-supplier=Element14; ComponentLink3Description: New link; ComponentLink3URL: *
footprint RESC1608X55N
pins: 1, 2

## RCL121847R0JNEK
designator R?
Resistor; Manufacturer_Name: Vishay; Manufacturer_Part_Number: RCL121847R0JNEK; Datasheet Link: http://www.vishay.com/docs/20046/rcle3.pdf; Height: 0.6mm
footprint RESC3246X60N
pins: 1, 2

## RCL121847R0JNEK_1
designator R?  Supplier Part Number 1: RCL47BCT-ND
Res Thick Film 1218 47 Ohm 5% 1W ±200ppm/C Pad SMD Automotive T/R; Manufacturer_Name: Vishay; Manufacturer_Part_Number: RCL121847R0JNEK; Resistance: 47R; Voltage Rating: 200V; Temperature Coefficient: 200ppm/°C; Datasheet Link: http://www.vishay.com/docs/20046/rcle3.pdf; Height: 0.6mm; Supplier 1: Digi-Key; Manufacturer: Vishay; Manufacturer Part Number: RCL121847R0JNEK; RoHS: Yes; Category: Chip SMD Resistors; Stock 1: 6113; Pricing 1: 1=0.62000, 10=0.47600, 100=0.20010, 1000=0.11040 (USD); Case/Package: 1218; Case Code (Metric): 4532; Case Code (Imperial): 1812; Weight: 0.001041oz; Min Operating Temperature: -55°C; Max Operating Temperature: 155°C; Package Quantity: 4000; Power Rating: 1W; Tolerance: 5%; Packaging: Tape and Reel; Resistor Type: Thick Film; Number of Terminations: 2; Termination: SMD/SMT; Max Power Dissipation: 1W; Features: Automotive AEC-Q200; Series: RCL; Length: 0.126inch; Width: 0.181inch; Height - Seated (Max): 0.024inch; RoHS Compliant: Yes; ComponentLink1URL: https://datasheet.ciiva.com/2480/dcrcwe3-2480270.pdf?src-supplier=Digi-Key; ComponentLink1Description: https://datasheet.ciiva.com/2480/dcrcwe3-2480270.pdf?src-supplier=Digi-Key; ComponentLink2URL: https://datasheet.ciiva.com/2480/rcle3-2480271.pdf?src-supplier=Digi-Key; ComponentLink2Description: https://datasheet.ciiva.com/2480/rcle3-2480271.pdf?src-supplier=Digi-Key; ComponentLink3URL: https://datasheet.ciiva.com/2480/rcle3-2480272.pdf?src-supplier=Digi-Key; ComponentLink3Description: https://datasheet.ciiva.com/2480/rcle3-2480272.pdf?src-supplier=Digi-Key
footprint RESC3246X60N
pins: 1, 2

## RMCF1206JT20K0‎‎
designator R?  Supplier Part Number 1: RMCF1206JT20K0CT-ND
RES SMD 20K OHM 5% 1/4W 1206; Manufacturer_Name: KOA Speer; Manufacturer_Part_Number: RN73H2BTTD1001B10; Manufacturer: Stackpole Electronics; Manufacturer Part Number: RMCF1206JT20K0; Resistance: 20kR; Power Rating: 250mW; Temperature Coefficient: 200ppm/°C; Datasheet Link: https://www.mouser.de/datasheet/2/219/RN73H-1843478.pdf; Height: 0.7mm; Supplier 1: Digi-Key; RoHS: Yes; Category: Chip SMD Resistors; Stock 1: 60988; Pricing 1: 1=0.10000, 10=0.02800, 100=0.01150, 1000=0.00518, 2500=0.00450 (USD); Mount: Surface Mount; Case/Package: 1206; Case Code (Metric): 3216; Case Code (Imperial): 1206; Contact Plating: Tin,Matte; Size Code: 1206; Min Operating Temperature: -55°C; Max Operating Temperature: 155°C; Tolerance: 5%; Packaging: Tape and Reel; Resistor Type: Thick Film; Number of Terminations: 2; Max Power Dissipation: 250mW; Features: Automotive AEC-Q200; Series: RMCF; Length: 0.126inch; Width: 0.063inch; Radiation Hardening: No; Lead Free: Lead Free; RoHS Compliant: Yes; ComponentLink1URL: http://components.arrow.com/part/dataview/43746691S7171900N1174?src-supplier=Arrow+Electronics; ComponentLink1Description: http://components.arrow.com/part/dataview/43746691S7171900N1174?src-supplier=Arrow+Electronics; ComponentLink2URL: https://www.seielect.com/catalog/SEI-RMCF_RMCP.pdf?src-supplier=Avnet; ComponentLink2Description: https://www.seielect.com/catalog/SEI-RMCF_RMCP.pdf?src-supplier=Avnet; ComponentLink3URL: https://www.seielect.com/Catalog/SEI-RMCF_RMCP.pdf?src-supplier=Digi-Key; ComponentLink3Description: https://www.seielect.com/Catalog/SEI-RMCF_RMCP.pdf?src-supplier=Digi-Key; ComponentLink4URL: https://www.seielect.com/catalog/SEI-Packaging.pdf?src-supplier=Digi-Key; ComponentLink4Description: https://www.seielect.com/catalog/SEI-Packaging.pdf?src-supplier=Digi-Key; ComponentLink5URL: http://www.seielect.com/Catalog/SEI-RMC.pdf?src-supplier=Future+Electronics; ComponentLink5Description: http://www.seielect.com/Catalog/SEI-RMC.pdf?src-supplier=Future+Electronics
footprint RESC3216X70N
pins: 1, 2

## SMA6J5.0A
designator D?  Supplier Part Number 1: 1727-4962-1-ND
NEXPERIA - BZV55-C15,115 - ZENER-DIODE, 15V, 0.5W, SOD-80C-2; Manufacturer_Name: LITTELFUSE; Manufacturer_Part_Number: SMA6J5.0A; Datasheet Link: https://www.arrow.com/en/products/sma6j5.0a/littelfuse; Height: 2.29mm; Supplier 1: Digi-Key; Manufacturer: Nexperia; Manufacturer Part Number: BZV55-C15,115; RoHS: Yes; Category: Zener Diodes; Stock 1: 165; Pricing 1: 1=0.19000, 10=0.17500, 100=0.09520, 500=0.05856, 1000=0.03993 (USD); RoHS Compliant: Yes; ComponentLink1URL: http://www.farnell.com/datasheets/1498690.pdf?src-supplier=Farnell; ComponentLink1Description: http://www.farnell.com/datasheets/1498690.pdf?src-supplier=Farnell; ComponentLink2URL: https://assets.nexperia.com/documents/data-sheet/BZV55_SER.pdf?src-supplier=Digi-Key; ComponentLink2Description: https://assets.nexperia.com/documents/data-sheet/BZV55_SER.pdf?src-supplier=Digi-Key
footprint DIOM5026X229N
pins: 1 K, 2 A

## SN74AHC1G09DCKR
designator IC?  Supplier Part Number 1: 296-29203-1-ND
TEXAS INSTRUMENTS         SN74AHC1G09DCKR             AND Gate, ACH Family, 2 Input, 1 Gate, 25 mA, 2V to 5.5V, SC-70-5; Quiescent Current: 1uA; Output Current: 25mA; Number of Inputs: 2; Propagation Delay: 7.5ns; Number of Outputs: 1; Low Level Output Current: 8mA; Datasheet Link: http://www.ti.com/lit/gpn/sn74ahc1g09; Height: 1.1mm; Manufacturer_Name: Texas Instruments; Manufacturer_Part_Number: SN74AHC1G09DCKR; Supplier 1: Digi-Key; Manufacturer: Texas Instruments; Manufacturer Part Number: SN74AHC1G09DCKR; RoHS: Yes; Category: Logic Gates; Stock 1: 19244; Pricing 1: 1=0.40000, 10=0.29700, 25=0.25960, 100=0.16810, 250=0.13912, 500=0.11130, 1000=0.08533 (USD); Mount: Surface Mount; Case/Package: SC; Number of Pins: 5; Min Operating Temperature: -55°C; Max Operating Temperature: 125°C; Max Supply Voltage: 5.5V; Min Supply Voltage: 2V; Logic Function: AND GATE; Packaging: Tape and Reel; Package Quantity: 3000; Output Voltage: 5.5V; Number of Circuits: 1; Number of Gates: 1; Number of Elements: 1; Number of Bits: 1; Series: 74AHC; Technology: CMOS; Radiation Hardening: No; REACH SVHC: No SVHC; Lead Free: Lead Free; RoHS Compliant: Yes; ComponentLink1URL: https://datasheet.ciiva.com/1869/sn74ahc1g09-1869442.pdf?src-supplier=Digi-Key; ComponentLink1Description: https://datasheet.ciiva.com/1869/sn74ahc1g09-1869442.pdf?src-supplier=Digi-Key; ComponentLink2URL: https://datasheet.ciiva.com/4817/scls724b-115396-4817364.pdf?src-supplier=Mouser; ComponentLink2Description: https://datasheet.ciiva.com/4817/scls724b-115396-4817364.pdf?src-supplier=Mouser; ComponentLink3URL: https://datasheet.ciiva.com/1869/sn74ahc1g09-1869443.pdf?src-supplier=Digi-Key; ComponentLink3Description: https://datasheet.ciiva.com/1869/sn74ahc1g09-1869443.pdf?src-supplier=Digi-Key; ComponentLink4URL: https://datasheet.ciiva.com/1869/sn74ahc1g09-1869444.pdf?src-supplier=Digi-Key; ComponentLink4Description: https://datasheet.ciiva.com/1869/sn74ahc1g09-1869444.pdf?src-supplier=Digi-Key; ComponentLink5URL: https://datasheet.ciiva.com/14310/sn74ahc1g09-14310535.pdf?src-supplier=Avnet; ComponentLink5Description: https://datasheet.ciiva.com/14310/sn74ahc1g09-14310535.pdf?src-supplier=Avnet; ComponentLink6URL: https://datasheet.ciiva.com/41677/1864448-41677365.pdf?src-supplier=Newark; ComponentLink6Description: https://datasheet.ciiva.com/41677/1864448-41677365.pdf?src-supplier=Newark
footprint SOT65P210X110-5N
pins: 1 A (in), 2 B (in), 3 GND (power), 4 Y (out), 5 VCC (power)

## SN74AHC1G14DRLR
designator IC?  Supplier Part Number 1: 296-23232-1-ND
IC INVERTER SCHMITT 1CH SOT5; Manufacturer_Name: Texas Instruments; Manufacturer_Part_Number: SN74AHC1G14DRLR; Number of Inputs: 1; Propagation Delay: 10.6ns; Max Supply Voltage: 5.5V; Min Supply Voltage: 2V; Logic Function: Inverting,Schmitt Trigger,Inverter; Quiescent Current: 1uA; High Level Output Current: -8mA; Low Level Output Current: 8mA; Turn-On Delay Time: 18.5ns; Input Type: SCHMITT TRIGGER; Operating Supply Voltage: 5V; Datasheet Link: http://www.ti.com/lit/gpn/sn74ahc1g14; Height: 0.6mm; Mouser2 Part Number: 595-SN74AHC1G14DRLR; Mouser2 Price/Stock: https://www.mouser.com/Search/Refine.aspx?Keyword=595-SN74AHC1G14DRLR; Supplier 1: Digi-Key; Manufacturer: Texas Instruments; Manufacturer Part Number: SN74AHC1G14DRLR; RoHS: Yes; Category: Logic Gates; Stock 1: 2029; Pricing 1: 1=0.51000, 10=0.41400, 25=0.37840, 100=0.28150, 250=0.25516, 500=0.21116, 1000=0.15836 (USD); Mount: Surface Mount; Case/Package: SOT-553; Number of Pins: 5; Weight: 9.9E-05oz; Min Operating Temperature: -40°C; Max Operating Temperature: 125°C; Package Quantity: 4000; Packaging: Cut Tape; Number of Elements: 1; Number of Circuits: 1; Number of Gates: 1; Number of Bits: 1; Series: SN74AHC1G14; Radiation Hardening: No; Lead Free: Lead Free; RoHS Compliant: Yes; ComponentLink1URL: https://datasheet.ciiva.com/1866/sn74ahc1g14-1866325.pdf?src-supplier=Digi-Key; ComponentLink1Description: https://datasheet.ciiva.com/1866/sn74ahc1g14-1866325.pdf?src-supplier=Digi-Key
footprint SOTFL50P160X60-5N
pins: 1 NC, 2 A, 3 GND, 4 Y, 5 VCC

## SN75454BP
designator IC?  Supplier Part Number 1: 296-9914-5-ND
IC PERIPHERAL DRVR DUAL HS 8-DIP; Manufacturer_Name: Texas Instruments; Manufacturer_Part_Number: SN75454BP; Number of Drivers: 2; Propagation Delay: 35ns; Output Voltage: 30V; Output Current: 400mA; Turn-On Delay Time: 8ns; Turn-Off Delay Time: 12ns; Max Input Voltage: 5.5V; Max Supply Current: 79mA; Max Power Dissipation: 1W; Min Supply Voltage: 4.75V; Max Supply Voltage: 5.25V; Datasheet Link: http://www.ti.com/lit/gpn/sn75454b; Height: 5.08mm; Supplier 1: Digi-Key; Manufacturer: Texas Instruments; Manufacturer Part Number: SN75454BP; RoHS: Yes; Category: Interface ICs; Stock 1: 1340; Pricing 1: 1=0.95000, 10=0.83300, 25=0.78200, 100=0.63830, 250=0.59284, 500=0.50456, 1000=0.40365, 2500=0.39746 (USD); Mount: Through Hole; Case/Package: PDIP; Number of Pins: 8; Weight: 0.015535oz; Min Operating Temperature: 0°C; Max Operating Temperature: 70°C; Packaging: Rail/Tube; Package Quantity: 50; Power Dissipation: 1W; Number of Outputs: 2; Length: 9.81mm; Width: 6.35mm; Radiation Hardening: No; Lead Free: Lead Free; RoHS Compliant: Yes; ComponentLink1URL: https://datasheet.ciiva.com/15115/getdatasheetpartid-257432-15115479.pdf?src-supplier=Verical; ComponentLink1Description: https://datasheet.ciiva.com/15115/getdatasheetpartid-257432-15115479.pdf?src-supplier=Verical; ComponentLink2URL: https://datasheet.ciiva.com/26836/sn75454bp-26836405.pdf?src-supplier=IIIC; ComponentLink2Description: https://datasheet.ciiva.com/26836/sn75454bp-26836405.pdf?src-supplier=IIIC; ComponentLink3URL: https://datasheet.ciiva.com/1702/sn75452b-1702699.pdf?src-supplier=Digi-Key; ComponentLink3Description: https://datasheet.ciiva.com/1702/sn75452b-1702699.pdf?src-supplier=Digi-Key; ComponentLink4URL: https://datasheet.ciiva.com/1558/sn75452b-1558478.pdf?src-supplier=Farnell; ComponentLink4Description: https://datasheet.ciiva.com/1558/sn75452b-1558478.pdf?src-supplier=Farnell; ComponentLink5URL: https://datasheet.ciiva.com/3303/slrs021b-3303293.pdf?src-supplier=Avnet; ComponentLink5Description: https://datasheet.ciiva.com/3303/slrs021b-3303293.pdf?src-supplier=Avnet; ComponentLink6URL: https://datasheet.ciiva.com/1502/1829915-1502109.pdf?src-supplier=Element14; ComponentLink6Description: https://datasheet.ciiva.com/1502/1829915-1502109.pdf?src-supplier=Element14; ComponentLink7URL: https://datasheet.ciiva.com/26240/sn75453b-26240037.pdf?src-supplier=Avnet+Europe; ComponentLink7Description: https://datasheet.ciiva.com/26240/sn75453b-26240037.pdf?src-supplier=Avnet+Europe
footprint DIP794W53P254L959H508Q8N
pins: 1 1A, 2 1B, 3 1Y, 4 GND, 5 2Y, 6 2A, 7 2B, 8 VCC

## ST-4ETB203
designator VR?  Supplier Part Number 1: ST4ETB203CT-ND
TRIMMER 20K OHM 0.25W SMD; Manufacturer_Name: NIDEC COPAL; Manufacturer_Part_Number: ST-4ETB203; Manufacturer Part Number: ST4ETB203; Resistance: 20kR; Tolerance: 20%; Number of Turns: 1; Max Power Dissipation: 250mW; Temperature Coefficient: 100ppm/°C; Datasheet Link: https://www.nidec-copal-electronics.com/e/catalog/trimmer/st-4.pdf; Height: 2.6mm; Supplier 1: Digi-Key; Manufacturer: Nidec Copal; RoHS: Yes; Category: Variable Resistors and Potentiometers; Stock 1: 792; Pricing 1: 1=1.20000, 10=1.06000, 25=0.95440, 50=0.91920, 100=0.88380, 250=0.83072 (USD); Mount: Surface Mount; Color: Black; Weight: 120mg; Min Operating Temperature: -55°C; Max Operating Temperature: 125°C; Termination: Gull Wing; Packaging: Tape and Reel; Resistor Type: Cermet; Series: ST4; Length: 0.197inch; Width: 0.177inch; Radiation Hardening: No; Lead Free: Lead Free; ComponentLink1URL: https://datasheet.ciiva.com/2157/st-4-2157765.pdf?src-supplier=Digi-Key; ComponentLink1Description: https://datasheet.ciiva.com/2157/st-4-2157765.pdf?src-supplier=Digi-Key; ComponentLink2URL: https://datasheet.ciiva.com/2157/st-4-2157766.pdf?src-supplier=Digi-Key; ComponentLink2Description: https://datasheet.ciiva.com/2157/st-4-2157766.pdf?src-supplier=Digi-Key
footprint ST4ETB203
pins: 1 CCW, 2 WIPER_, 3 CW